# EAGLE library part 20D- (library Chips)
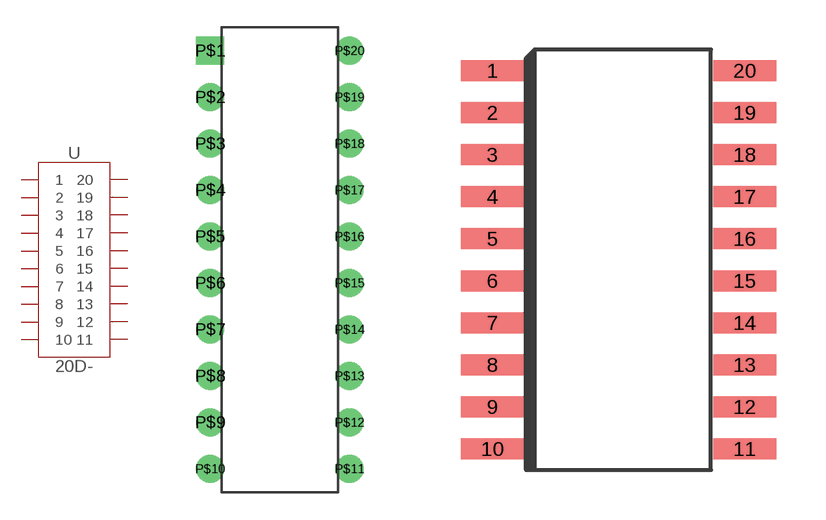
[diagram p5: symbol with the pads of 20DIP; footprints 20DIP, 20SOP_5.6MM]

Designator prefix U

## 20D-DIP  [20DIP]
P$1  1
P$2  2
P$3  3
P$4  4
P$5  5
P$6  6
P$7  7
P$8  8
P$9  9
P$10  10
P$11  11
P$12  12
P$13  13
P$14  14
P$15  15
P$16  16
P$17  17
P$18  18
P$19  19
P$20  20

## 20D-SO_5.6  [20SOP_5.6MM]
1  1
2  2
3  3
4  4
5  5
6  6
7  7
8  8
9  9
10  10
11  11
12  12
13  13
14  14
15  15
16  16
17  17
18  18
19  19
20  20

## Footprint 20DIP (pad centres in mm)
drill 1 square: P$1 -3.81,11.43
drill 1: P$2 -3.81,8.89; P$3 -3.81,6.35; P$4 -3.81,3.81; P$5 -3.81,1.27; P$6 -3.81,-1.27; P$7 -3.81,-3.81; P$8 -3.81,-6.35; P$9 -3.81,-8.89; P$10 -3.81,-11.43; P$11 3.81,-11.43; P$12 3.81,-8.89; P$13 3.81,-6.35; P$14 3.81,-3.81; P$15 3.81,-1.27; P$16 3.81,1.27; P$17 3.81,3.81; P$18 3.81,6.35; P$19 3.81,8.89; P$20 3.81,11.43

## Footprint 20SOP_5.6MM (pad centres in mm)
smd 1.905 x 0.635: 1 -3.81,5.715; 2 -3.81,4.445; 3 -3.81,3.175; 4 -3.81,1.905; 5 -3.81,0.635; 6 -3.81,-0.635; 7 -3.81,-1.905; 8 -3.81,-3.175; 9 -3.81,-4.445; 10 -3.81,-5.715; 11 3.81,-5.715; 12 3.81,-4.445; 13 3.81,-3.175; 14 3.81,-1.905; 15 3.81,-0.635; 16 3.81,0.635; 17 3.81,1.905; 18 3.81,3.175; 19 3.81,4.445; 20 3.81,5.715